# Altium footprint library SamacSys.PcbLib: 70 footprints (part 1 of 5)
Each footprint in its own frame and in the unit in brackets; x right, y up, seen from the top. Pads: shape width x height; smd on the part's side, far side on the other; paste and mask are expansions set on the pad; w line width, h text height; cw(c..) or ccw(c..) is an arc to the next point about the centre after c.
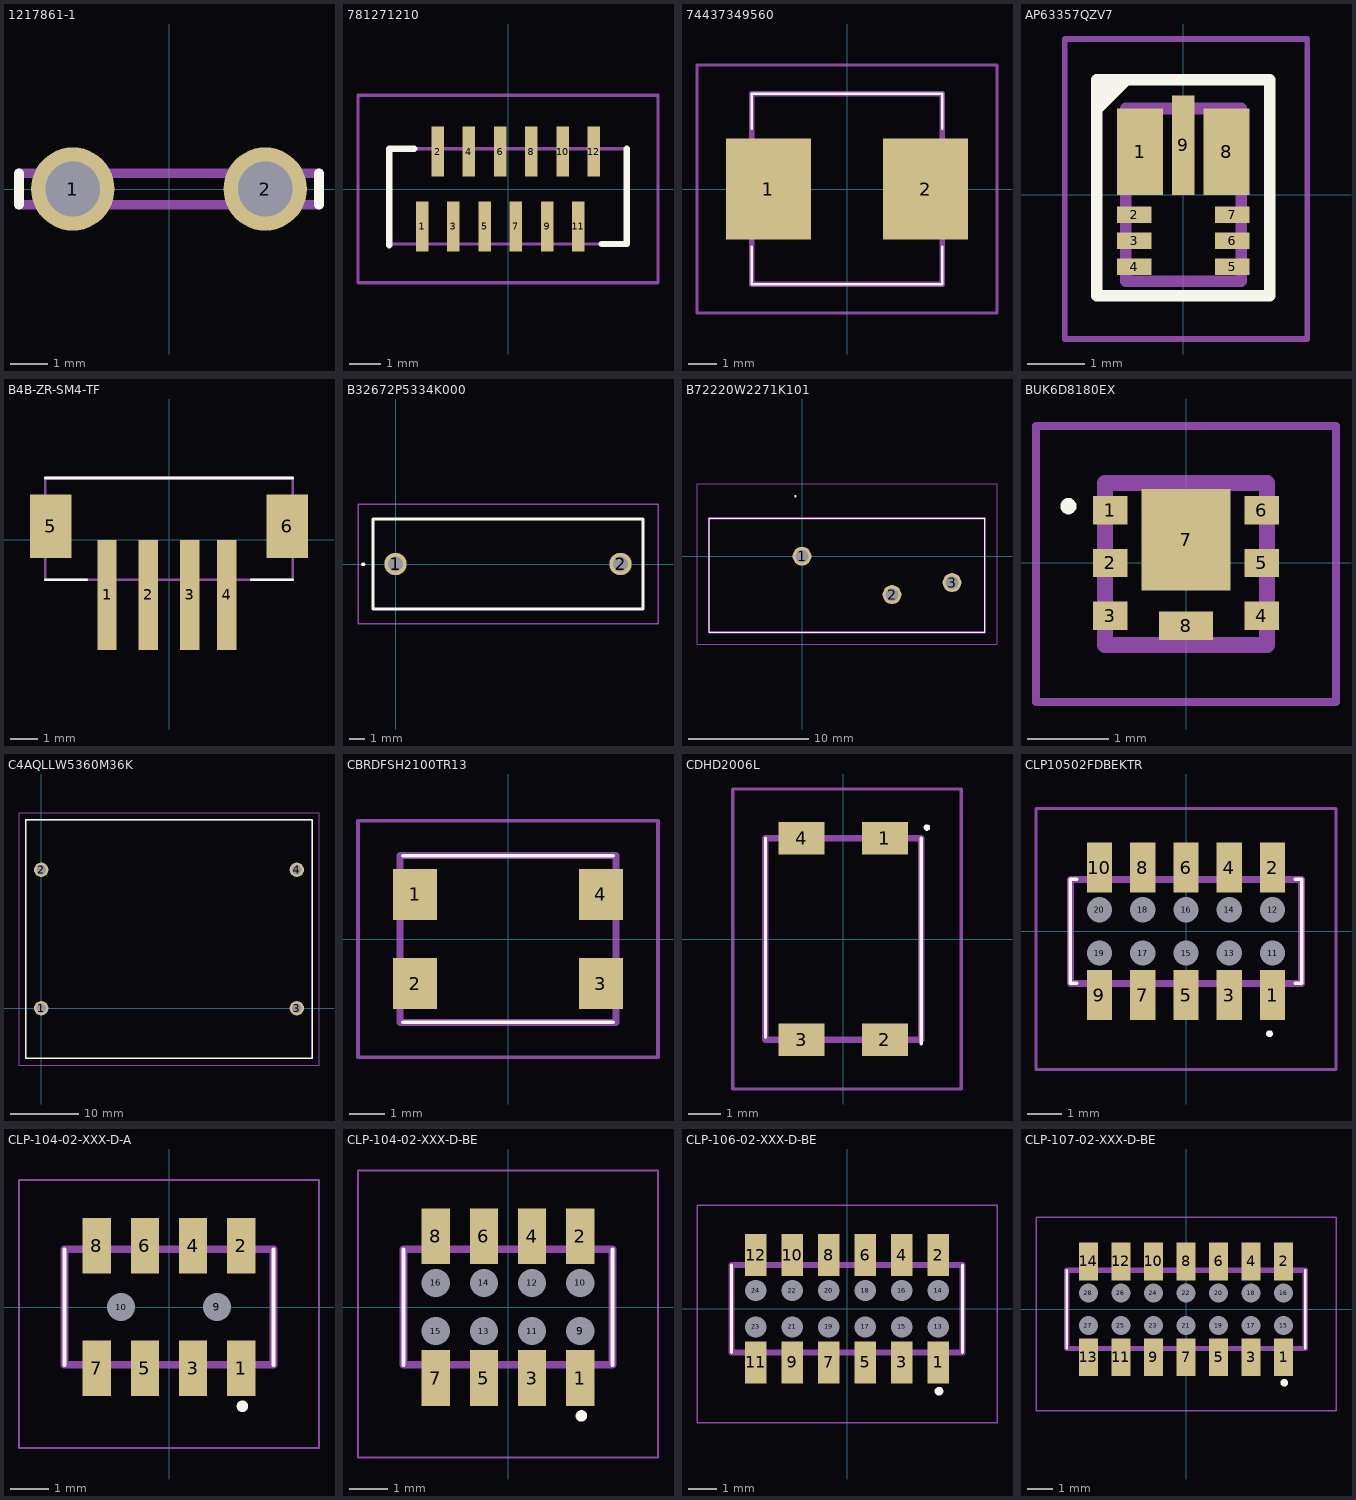
[diagram p0: the footprints below, top view; thin cyan lines are the x and y axes]

## 1217861-1 [mm]
pads (2):
  round 2.2 hole 1.45: 1(-2.54,0) 2(2.54,0)
Top Overlay:
  lines w0.254: -3.96,-0.415 -3.96,0.415 ; 3.96,-0.415 3.96,0.415
Mechanical 13:
  lines w0.254: -3.96,-0.415 -3.96,0.415 3.96,0.415 3.96,-0.415 -3.96,-0.415
3D body "1217861-1.stp": height 10.26, standoff -3.76, extent -3.962,-1.543 3.962,1.543

## 781271210 [mm]
pads (12):
  rect 0.4x1.6 smd: 1(-2.75,-1.2) 2(-2.25,1.2) 3(-1.75,-1.2) 4(-1.25,1.2) 5(-0.75,-1.2) 6(-0.25,1.2) 7(0.25,-1.2) 8(0.75,1.2) 9(1.25,-1.2) 10(1.75,1.2) 11(2.25,-1.2) 12(2.75,1.2)
Top Overlay:
  lines w0.2: -3.8,-1.8 -3.8,1.29 -3,1.29 ; 3,-1.76 3.8,-1.76 3.8,1.29
Mechanical 13:
  lines w0.1: -3.8,-1.76 3.8,-1.76 3.8,1.29 -3.8,1.29 -3.8,-1.76
Mechanical 15:
  lines w0.1: -4.8,-3 4.8,-3 4.8,3 -4.8,3 -4.8,-3
3D body "781271210.stp": height 4.04, standoff -0.06, extent -3.775,-1.725 3.825,1.725

## 74437349560 [mm]
pads (2):
  rect 2.95x3.5 smd: 1(-2.725,0) 2(2.725,0)
Top Overlay:
  lines w0.1: -3.3,-2 -3.3,-3.3 3.3,-3.3 3.3,-2 ; -3.3,2.1 -3.3,3.3 3.3,3.3 3.3,2.1
Mechanical 13:
  lines w0.2: -3.3,-3.3 3.3,-3.3 3.3,3.3 -3.3,3.3 -3.3,-3.3
Mechanical 15:
  lines w0.1: -5.2,-4.3 5.2,-4.3 5.2,4.3 -5.2,4.3 -5.2,-4.3
3D body "74437349560.stp": height 5.1, standoff 0, extent -3.905,-3.3 3.905,3.3

## AP63357QZV7 [mm]
pads (9):
  rect 0.8x1.5 smd: 1(-0.75,0.75) 8(0.75,0.75)
  rect 0.6x0.29 smd: 2(-0.85,-0.344) 3(-0.85,-0.794) 4(-0.85,-1.244) 5(0.85,-1.244) 6(0.85,-0.794) 7(0.85,-0.344)
  rect 0.39x1.73 smd: 9(0,0.864)
Top Overlay:
  region: -1.5,1.35 -0.85,2 -1.5,2
  lines w0.2: -1.5,-1.75 1.5,-1.75 1.5,2 -1.5,2 -1.5,-1.75
Mechanical 13:
  lines w0.2: -1,-1.5 1,-1.5 1,1.5 -1,1.5 -1,-1.5
Mechanical 15:
  lines w0.1: -2.06,-2.5 2.15,-2.5 2.15,2.706 -2.06,2.706 -2.06,-2.5
3D body "AP63357QZV-7.stp": height 0.95, standoff 0, extent -1,-1.5 1,1.5

## B4B-ZR-SM4-TF [mm]
pads (6):
  rect 0.7x4 smd: 1(-2.25,-2) 2(-0.75,-2) 3(0.75,-2) 4(2.1,-2)
  rect 1.5x2.3 smd: 5(-4.3,0.5) 6(4.3,0.5)
Top Overlay:
  lines w0.1: -4.5,-1.45 -3,-1.45 ; -4.5,2.25 4.5,2.25 ; 3,-1.45 4.5,-1.45
Mechanical 13:
  lines w0.1: -4.5,-1.45 4.5,-1.45 4.5,2.25 -4.5,2.25 -4.5,-1.45

## B32672P5334K000 [mm]
pads (2):
  round 1.5 hole 1: 1(0,0) 2(15,0)
Top Overlay:
  lines w0.2: -2.2,0 ccw(c-2.15,0) -2.1,0 ; -2.2,0 ccw(c-2.15,0) -2.1,0 ; -2.2,0 -2.1,0 ; -1.5,-3 -1.5,3 16.5,3 16.5,-3 -1.5,-3
Mechanical 13:
  lines w0.1: -1.5,-3 -1.5,3 16.5,3 16.5,-3 -1.5,-3
Mechanical 15:
  lines w0.1: -2.5,-4 -2.5,4 17.5,4 17.5,-4 -2.5,-4
3D body "B32672P5334K000.stp": height 11.1, standoff -5, extent -1.5,-3 16.5,3

## B72220W2271K101 [mm]
pads (3):
  round 1.575 hole 1.05: 1(0,0) 2(7.5,-3.2) 3(12.5,-2.2)
Top Overlay:
  lines w0.1: -0.6,5 cw(c-0.55,5) -0.5,5 ; -0.6,5 ccw(c-0.55,5) -0.5,5 ; -0.6,5 cw(c-0.55,5) -0.5,5 ; -7.75,-6.35 -7.75,3.15 15.25,3.15 15.25,-6.35 -7.75,-6.35
Mechanical 13:
  lines w0.2: -7.75,-6.35 -7.75,3.15 15.25,3.15 15.25,-6.35 -7.75,-6.35
Mechanical 15:
  lines w0.1: -8.75,-7.35 -8.75,6.05 16.25,6.05 16.25,-7.35 -8.75,-7.35
3D body "B72220W2271K101.stp": height 28.1, standoff -5, extent -7.75,-6.35 15.25,3.15

## BUK6D8180EX [mm]
pads (8):
  rect 0.43x0.35 smd: 1(-0.935,0.65) 2(-0.935,0) 3(-0.935,-0.65) 4(0.935,-0.65) 5(0.935,0) 6(0.935,0.65)
  rect 1.1x1.25 smd: 7(0,0.285)
  rect 0.66x0.35 smd: 8(0,-0.775)
Top Overlay:
  lines w0.1: -1.5,0.7 ccw(c-1.45,0.7) -1.4,0.7 ccw(c-1.45,0.7) -1.5,0.7
Mechanical 13:
  lines w0.2: -1,-1.013 -1,0.987 1,0.987 1,-1.013 -1,-1.013
Mechanical 15:
  lines w0.1: -1.85,-1.713 -1.85,1.687 1.85,1.687 1.85,-1.713 -1.85,-1.713
3D body "BUK6D81-80EX.stp": height 0.75, standoff 0, extent -1.115,-1.013 1.115,0.987

## C4AQLLW5360M36K [mm]
pads (4):
  round 2.1 hole 1.4: 1(0,0) 2(0,20.3) 3(37.5,0) 4(37.5,20.3)
Top Overlay:
  lines w0.2: -2.25,-7.35 -2.25,27.65 39.75,27.65 39.75,-7.35 -2.25,-7.35
Mechanical 13:
  lines w0.1: -2.25,-7.35 -2.25,27.65 39.75,27.65 39.75,-7.35 -2.25,-7.35
Mechanical 15:
  lines w0.1: -3.25,-8.35 -3.25,28.65 40.75,28.65 40.75,-8.35 -3.25,-8.35
3D body "C4AQLLW5360M36K.stp": height 24.3, standoff -5, extent -2.25,-7.35 39.75,27.65

## CBRDFSH2100TR13 [mm]
pads (4):
  rect 1.25x1.45 smd: 1(-2.65,1.27) 2(-2.65,-1.27) 3(2.65,-1.27) 4(2.65,1.27)
Top Overlay:
  lines w0.1: -3,-2.375 3,-2.375 ; -3,2.375 3,2.375
Mechanical 13:
  lines w0.2: -3.075,-2.375 -3.075,2.375 3.075,2.375 3.075,-2.375 -3.075,-2.375
Mechanical 15:
  lines w0.1: -4.275,-3.375 -4.275,3.375 4.275,3.375 4.275,-3.375 -4.275,-3.375
3D body "CBRDFSH2-100_TR13.stp": height 1.32, standoff 0, extent -3.15,-2.375 3.15,2.375

## CDHD2006L [mm]
pads (4):
  rect 1.4x1 smd: 1(1.27,3.075) 2(1.27,-3.075) 3(-1.27,-3.075) 4(-1.27,3.075)
Top Overlay:
  lines w0.1: -2.375,-3 -2.375,3.075 ; 2.375,-3.2 2.375,3.075 ; 2.5,3.4 ccw(c2.55,3.4) 2.6,3.4 ccw(c2.55,3.4) 2.5,3.4
Mechanical 13:
  lines w0.2: -2.375,-3.075 -2.375,3.075 2.375,3.075 2.375,-3.075 -2.375,-3.075
Mechanical 15:
  lines w0.1: -3.375,-4.575 -3.375,4.575 3.6,4.575 3.6,-4.575 -3.375,-4.575
3D body "CD-HD2006L.stp": height 1.32, standoff 0, extent -2.375,-3.475 2.375,3.475

## CLP10502FDBEKTR [mm]
pads (20):
  rect 0.74x1.47 smd: 1(2.54,-1.87) 2(2.54,1.87) 3(1.27,-1.87) 4(1.27,1.87) 5(0,-1.87) 6(0,1.87) 7(-1.27,-1.87) 8(-1.27,1.87) 9(-2.54,-1.87) 10(-2.54,1.87)
  round 0.37 hole 0.74 unplated: 11(2.54,-0.635) 12(2.54,0.635) 13(1.27,-0.635) 14(1.27,0.635) 15(0,-0.635) 16(0,0.635) 17(-1.27,-0.635) 18(-1.27,0.635) 19(-2.54,-0.635) 20(-2.54,0.635)
Top Overlay:
  lines w0.1: -3.2,-1.525 -3.39,-1.525 -3.4,1.525 -3.2,1.525 ; 3.2,-1.525 3.4,-1.525 3.4,1.525 3.2,1.525 ; 2.4,-3 cw(c2.45,-3) 2.5,-3 cw(c2.45,-3) 2.4,-3
Mechanical 13:
  lines w0.2: -3.39,-1.525 -3.39,1.525 3.39,1.525 3.39,-1.525 -3.39,-1.525
Mechanical 15:
  lines w0.1: -4.4,-4.05 -4.4,3.605 4.4,3.605 4.4,-4.05 -4.4,-4.05
3D body "CLP-105-02-F-D-BE-K-TR.stp": height 2.39, standoff -1.7, extent -3.39,-2.531 3.39,2.531

## CLP-104-02-XXX-D-A [mm]
pads (10):
  rect 0.74x1.47 smd: 1(1.905,-1.615) 2(1.905,1.615) 3(0.635,-1.615) 4(0.635,1.615) 5(-0.635,-1.615) 6(-0.635,1.615) 7(-1.905,-1.615) 8(-1.905,1.615)
  round 0.37 hole 0.74 unplated: 9(1.265,0) 10(-1.265,0)
Top Overlay:
  circle w0.2: c1.935,-2.615 r0.05
  lines w0.1: -2.755,-1.525 -2.755,1.525 ; 2.755,-1.525 2.755,1.525
Mechanical 13:
  lines w0.2: -2.755,-1.525 -2.755,1.525 2.755,1.525 2.755,-1.525 -2.755,-1.525
Mechanical 15:
  lines w0.05: -3.955,-3.715 -3.955,3.35 3.955,3.35 3.955,-3.715 -3.955,-3.715
3D body "CLP-104-02-F-D-A.stp": height 2.47, standoff -1.7, extent -2.755,-2.276 2.755,2.276

## CLP-104-02-XXX-D-BE [mm]
pads (16):
  rect 0.74x1.47 smd: 1(1.905,-1.87) 2(1.905,1.87) 3(0.635,-1.87) 4(0.635,1.87) 5(-0.635,-1.87) 6(-0.635,1.87) 7(-1.905,-1.87) 8(-1.905,1.87)
  round 0.37 hole 0.74 unplated: 9(1.905,-0.635) 10(1.905,0.635) 11(0.635,-0.635) 12(0.635,0.635) 13(-0.635,-0.635) 14(-0.635,0.635) 15(-1.905,-0.635) 16(-1.905,0.635)
Top Overlay:
  circle w0.2: c1.935,-2.87 r0.05
  lines w0.1: -2.755,-1.525 -2.755,1.525 ; 2.755,-1.525 2.755,1.525
Mechanical 13:
  lines w0.2: -2.755,-1.525 -2.755,1.525 2.755,1.525 2.755,-1.525 -2.755,-1.525
Mechanical 15:
  lines w0.05: -3.955,-3.97 -3.955,3.605 3.955,3.605 3.955,-3.97 -3.955,-3.97
3D body "CLP-104-02-F-D-BE.stp": height 2.13, standoff -0.15, extent -2.755,-2.168 2.757,2.15

## CLP-106-02-XXX-D-BE [mm]
pads (24):
  rect 0.74x1.47 smd: 1(3.175,-1.87) 2(3.175,1.87) 3(1.905,-1.87) 4(1.905,1.87) 5(0.635,-1.87) 6(0.635,1.87) 7(-0.635,-1.87) 8(-0.635,1.87) 9(-1.905,-1.87) 10(-1.905,1.87) 11(-3.175,-1.87) 12(-3.175,1.87)
  round 0.37 hole 0.74 unplated: 13(3.175,-0.635) 14(3.175,0.635) 15(1.905,-0.635) 16(1.905,0.635) 17(0.635,-0.635) 18(0.635,0.635) 19(-0.635,-0.635) 20(-0.635,0.635) 21(-1.905,-0.635) 22(-1.905,0.635) 23(-3.175,-0.635) 24(-3.175,0.635)
Top Overlay:
  circle w0.2: c3.205,-2.87 r0.05
  lines w0.1: -4.025,-1.525 -4.025,1.525 ; 4.025,-1.525 4.025,1.525
Mechanical 13:
  lines w0.2: -4.025,-1.525 -4.025,1.525 4.025,1.525 4.025,-1.525 -4.025,-1.525
Mechanical 15:
  lines w0.05: -5.225,-3.97 -5.225,3.605 5.225,3.605 5.225,-3.97 -5.225,-3.97
3D body "CLP-106-02-F-D-BE.stp": height 2.13, standoff -0.15, extent -4.052,-2.209 4,2.109

## CLP-107-02-XXX-D-BE [mm]
pads (28):
  rect 0.74x1.47 smd: 1(3.81,-1.87) 2(3.81,1.87) 3(2.54,-1.87) 4(2.54,1.87) 5(1.27,-1.87) 6(1.27,1.87) 7(0,-1.87) 8(0,1.87) 9(-1.27,-1.87) 10(-1.27,1.87) 11(-2.54,-1.87) 12(-2.54,1.87) 13(-3.81,-1.87) 14(-3.81,1.87)
  round 0.37 hole 0.74 unplated: 15(3.81,-0.635) 16(3.81,0.635) 17(2.54,-0.635) 18(2.54,0.635) 19(1.27,-0.635) 20(1.27,0.635) 21(0,-0.635) 22(0,0.635) 23(-1.27,-0.635) 24(-1.27,0.635) 25(-2.54,-0.635) 26(-2.54,0.635) 27(-3.81,-0.635) 28(-3.81,0.635)
Top Overlay:
  circle w0.2: c3.84,-2.87 r0.05
  lines w0.1: -4.66,-1.525 -4.66,1.525 ; 4.66,-1.525 4.66,1.525
Mechanical 13:
  lines w0.2: -4.66,-1.525 -4.66,1.525 4.66,1.525 4.66,-1.525 -4.66,-1.525
Mechanical 15:
  lines w0.05: -5.86,-3.97 -5.86,3.605 5.86,3.605 5.86,-3.97 -5.86,-3.97
3D body "CLP-107-02-F-D-BE.stp": height 2.13, standoff -0.15, extent -4.661,-2.175 4.661,2.143